# Altium integrated library M20-7820842.IntLib: 1 symbol
Pins are listed as number, name and electrical type; pins without a type are passive.

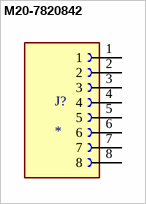
[diagram p0: symbol M20-7820842]

## M20-7820842
designator J?
MP: M20-7820842; Package: None; Price: None; Value: *; Availability: Unavailable
footprint HARWIN_M20-7820842
pins: 1, 2, 3, 4, 5, 6, 7, 8